# Altium footprint library FiducialPoints.PcbLib: 2 footprints
Each footprint in its own frame and in the unit in brackets; x right, y up, seen from the top. Pads: shape width x height; smd on the part's side, far side on the other; paste and mask are expansions set on the pad; w line width, h text height; cw(c..) or ccw(c..) is an arc to the next point about the centre after c.
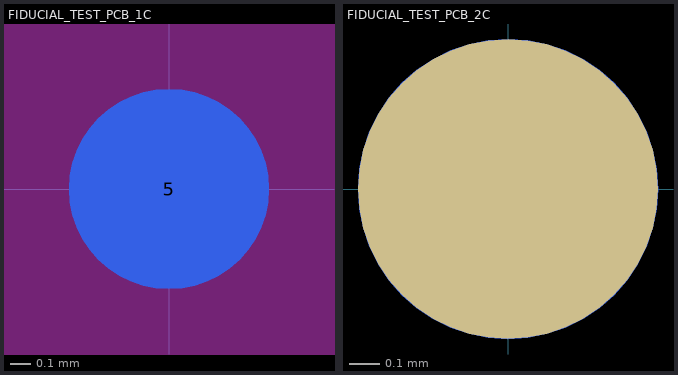
[diagram p0: the footprints below, top view; thin cyan lines are the x and y axes]

## FIDUCIAL_TEST_PCB_1C [mm] "Fiducial Test PCB 1 Capa"
pads (1):
  round 1 smd far side mask+1: 5(0,0)
Keep-Out Layer:
  circle w1.5: c0,0 r0.75

## FIDUCIAL_TEST_PCB_2C [mm] "Fiducial Test PCB 2 Capas"
pads (2):
  round 1 smd mask+1: ""(0,0)
  round 1 smd far side mask+1: ""(0,0)